# Altium schematic symbol library MCP1501.SchLib: 1 symbol
Pins are listed as number, name and electrical type; pins without a type are passive.

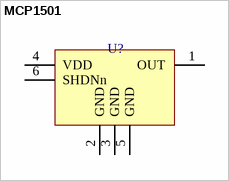
[diagram p0: symbol MCP1501]

## MCP1501
designator U?  (value not drawn)
pins: 1 OUT, 2 GND, 3 GND, 4 VDD, 5 GND, 6 SHDNn